# EAGLE library part ACS711 (library wpt)
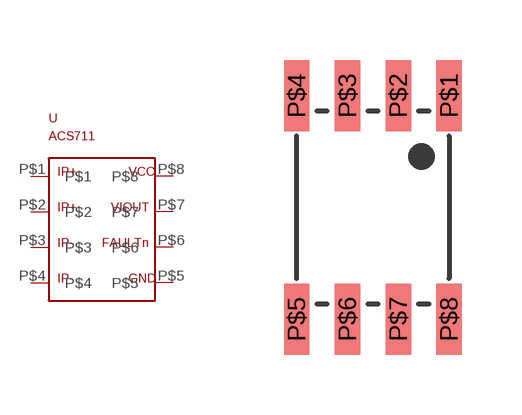
[diagram p1: symbol with the pads of IX4427N; footprint IX4427N]

Designator prefix U

## ACS711  [IX4427N]
P$1  P$1
P$2  P$2
P$3  P$3
P$4  P$4
P$5  P$5
P$6  P$6
P$7  P$7
P$8  P$8

## Footprint IX4427N (pad centres in mm)
smd 0.635 x 1.778: P$1 1.905,2.794; P$2 0.635,2.794; P$3 -0.635,2.794; P$4 -1.905,2.794; P$5 -1.905,-2.794; P$6 -0.635,-2.794; P$7 0.635,-2.794; P$8 1.905,-2.794